# Altium schematic symbol library sony-video.SchLib: 3 symbols
Pins are listed as number, name and electrical type; pins without a type are passive.

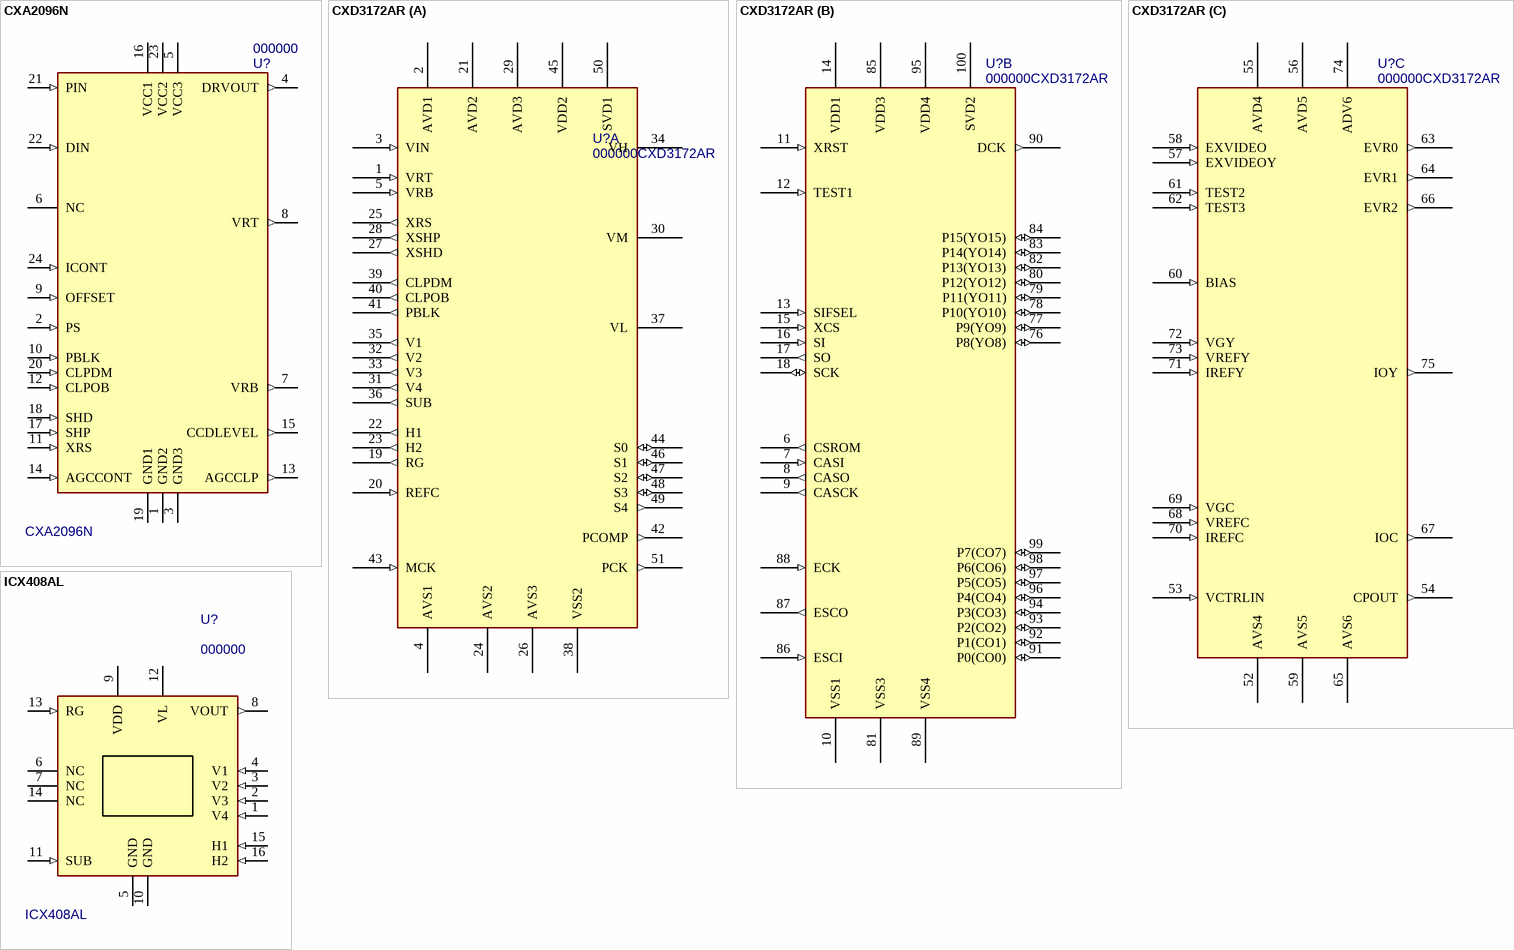
[diagram p0: symbols CXA2096N to ICX408AL]

## CXA2096N
designator U?, comment 000000  value CXA2096N
CCD Camera Head Amplifier; MF: Sony; Package: 24-SSOP; PN: 000000; ExtraInfo: *
footprint 24-SSOP (TSOP, 24-Leads, Body 7.9x5.7mm (max), Pitch 0.65mm, IPC High Density)
pins: 1 GND2 (power), 2 PS (in), 3 GND3 (power), 4 DRVOUT (out), 5 VCC3 (power), 6 NC, 7 VRB (out), 8 VRT (out), 9 OFFSET (in), 10 PBLK (in), 11 XRS (in), 12 CLPOB (in), 13 AGCCLP (out), 14 AGCCONT (in), 15 CCDLEVEL (out), 16 VCC1 (power), 17 SHP (in), 18 SHD (in), 19 GND1 (power), 20 CLPDM (in), 21 PIN (in), 22 DIN (in), 23 VCC2 (power), 24 ICONT (in)

## CXD3172AR
designator U?, comment 000000  value CXD3172AR
Signal Processor for CCD Color Camera; MF: Sony; PN: 000000; Package: 100-LQFP; ExtraInfo: *
footprint 100-LQFP (TSQFP, 100-Leads, Body 16.2x16.2mm (max), Pitch 0.50mm, IPC High Density)
part A pins: 1 VRT (in), 2 AVD1 (power), 3 VIN (in), 4 AVS1 (power), 5 VRB (in), 19 RG (out), 20 REFC (in), 21 AVD2 (power), 22 H1 (out), 23 H2 (out), 24 AVS2 (power), 25 XRS (out), 26 AVS3 (power), 27 XSHD (out), 28 XSHP (out), 29 AVD3 (power), 30 VM (power), 31 V4 (out), 32 V2 (out), 33 V3 (out), 34 VH (power), 35 V1 (out), 36 SUB (out), 37 VL (power), 38 VSS2 (power), 39 CLPDM (out), 40 CLPOB (out), 41 PBLK (out), 42 PCOMP (out), 43 MCK (in), 44 S0 (io), 45 VDD2 (power), 46 S1 (io), 47 S2 (io), 48 S3 (io), 49 S4 (out), 50 SVD1 (power), 51 PCK (out)
part B pins: 6 CSROM (out), 7 CASI (in), 8 CASO (out), 9 CASCK (out), 10 VSS1 (power), 11 XRST (in), 12 TEST1 (in), 13 SIFSEL (in), 14 VDD1 (power), 15 XCS (in), 16 SI (in), 17 SO (out), 18 SCK (io), 76 P8(YO8) (io), 77 P9(YO9) (io), 78 P10(YO10) (io), 79 P11(YO11) (io), 80 P12(YO12) (io), 81 VSS3 (power), 82 P13(YO13) (io), 83 P14(YO14) (io), 84 P15(YO15) (io), 85 VDD3 (power), 86 ESCI (in), 87 ESCO (out), 88 ECK (in), 89 VSS4 (power), 90 DCK (out), 91 P0(CO0) (io), 92 P1(CO1) (io), 93 P2(CO2) (io), 94 P3(CO3) (io), 95 VDD4 (power), 96 P4(CO4) (io), 97 P5(CO5) (io), 98 P6(CO6) (io), 99 P7(CO7) (io), 100 SVD2 (power)
part C pins: 52 AVS4 (power), 53 VCTRLIN (in), 54 CPOUT (out), 55 AVD4 (power), 56 AVD5 (power), 57 EXVIDEOY (in), 58 EXVIDEO (in), 59 AVS5 (power), 60 BIAS (in), 61 TEST2 (in), 62 TEST3 (in), 63 EVR0 (out), 64 EVR1 (out), 65 AVS6 (power), 66 EVR2 (out), 67 IOC (out), 68 VREFC (in), 69 VGC (in), 70 IREFC (in), 71 IREFY (in), 72 VGY (in), 73 VREFY (in), 74 ADV6 (power), 75 IOY (out)

## ICX408AL
designator U?, comment 000000  value ICX408AL
CCD Image Sensor; MF: SONY; Package: 16-DIP; PN: 000000; ExtraInfo: *
footprint DIP16
footprint CCD-DIP16
pins: 1 V4 (in), 2 V3 (in), 3 V2 (in), 4 V1 (in), 5 GND (power), 6 NC, 7 NC, 8 VOUT (out), 9 VDD (power), 10 GND (power), 11 SUB (in), 12 VL (power), 13 RG (in), 14 NC, 15 H1 (in), 16 H2 (in)